# Altium footprint library PCB-E220-400MM22S.PcbLib: 1 footprints
Each footprint in its own frame and in the unit in brackets; x right, y up, seen from the top. Pads: shape width x height; smd on the part's side, far side on the other; paste and mask are expansions set on the pad; w line width, h text height; cw(c..) or ccw(c..) is an arc to the next point about the centre after c.
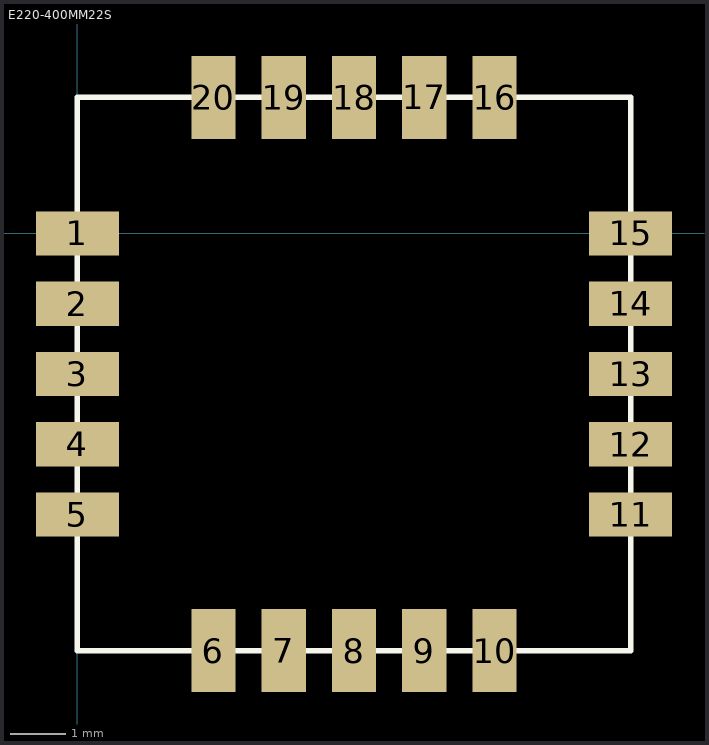
[diagram p0: the footprint, top view; thin cyan lines are the x and y axes]

## E220-400MM22S [mm]
height 2.5
pads (20):
  rect 1.5x0.8 smd mask+0.102: 1(0,0) 2(0,-1.27) 3(0,-2.54) 4(0,-3.81) 5(0,-5.08) 11(10,-5.08) 12(10,-3.81) 13(10,-2.54) 14(10,-1.27) 15(10,0)
  rect 0.8x1.5 smd mask+0.102: 6(2.46,-7.54) 7(3.73,-7.54) 8(5,-7.54) 9(6.27,-7.54) 10(7.54,-7.54) 16(7.54,2.46) 17(6.27,2.46) 18(5,2.46) 19(3.73,2.46) 20(2.46,2.46)
Top Overlay:
  lines w0.1: 0,-7.54 0,2.46 10,2.46 10,-7.54 0,-7.54